# Altium schematic symbol library Discrete_Inductors_Wirewound_GOST.SchLib: 2 symbols
Pins are listed as number, name and electrical type; pins without a type are passive.

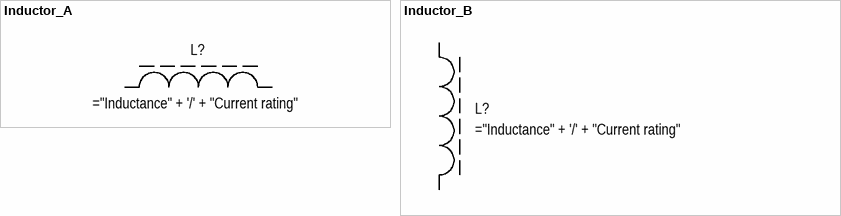
[diagram p0: symbols Inductor_A to Inductor_B]

## Inductor_A
designator L?
pins: 1, 2

## Inductor_B
designator L?
pins: 1, 2